# EAGLE library part ZX_I2_ROM_EDGE_CONNECTOR (library zxs_i2_rom_edge_connector)
Edge connector pro ROM modul pro Interface 2 počítače ZX Spectrum
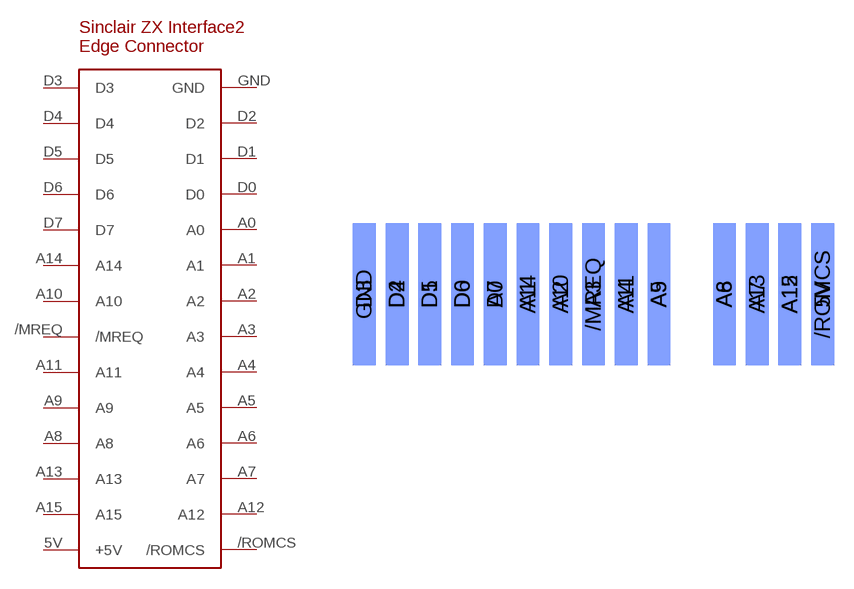
[diagram p0: symbol with the pads of ZX_I2_ROM_EDGE_CONNECTOR_V2; footprint ZX_I2_ROM_EDGE_CONNECTOR_V2]

Designator prefix -

## ZX_I2_ROM_EDGE_CONNECTOR  [ZX_I2_ROM_EDGE_CONNECTOR_V2]
5V  +5V
/MREQ  /MREQ
/ROMCS  /ROMCS
A0  A0
A1  A1
A2  A2
A3  A3
A4  A4
A5  A5
A6  A6
A7  A7
A8  A8
A9  A9
A10  A10
A11  A11
A12  A12
A13  A13
A14  A14
A15  A15
D0  D0
D1  D1
D2  D2
D3  D3
D4  D4
D5  D5
D6  D6
D7  D7
GND  GND

## Footprint ZX_I2_ROM_EDGE_CONNECTOR_V2 (pad centres in mm)
smd 1.778 x 11: 5V 10.16,5.08; /MREQ -7.62,5.08; A8 2.54,5.08; A9 -2.54,5.08; A10 -10.16,5.08; A11 -5.08,5.08; A13 5.08,5.08; A14 -12.7,5.08; A15 7.62,5.08; D3 -25.4,5.08; D4 -22.86,5.08; D5 -20.32,5.08; D6 -17.78,5.08; D7 -15.24,5.08
smd 1.778 x 11 bottom: /ROMCS 10.16,5.08; A0 -15.24,5.08; A1 -12.7,5.08; A2 -10.16,5.08; A3 -7.62,5.08; A4 -5.08,5.08; A5 -2.54,5.08; A6 2.54,5.08; A7 5.08,5.08; A12 7.62,5.08; D0 -17.78,5.08; D1 -20.32,5.08; D2 -22.86,5.08; GND -25.4,5.08